# Altium integrated library Linear Technology Power Management LDO Linear Regulators.IntLib: 2339 symbols (part 11 of 131)
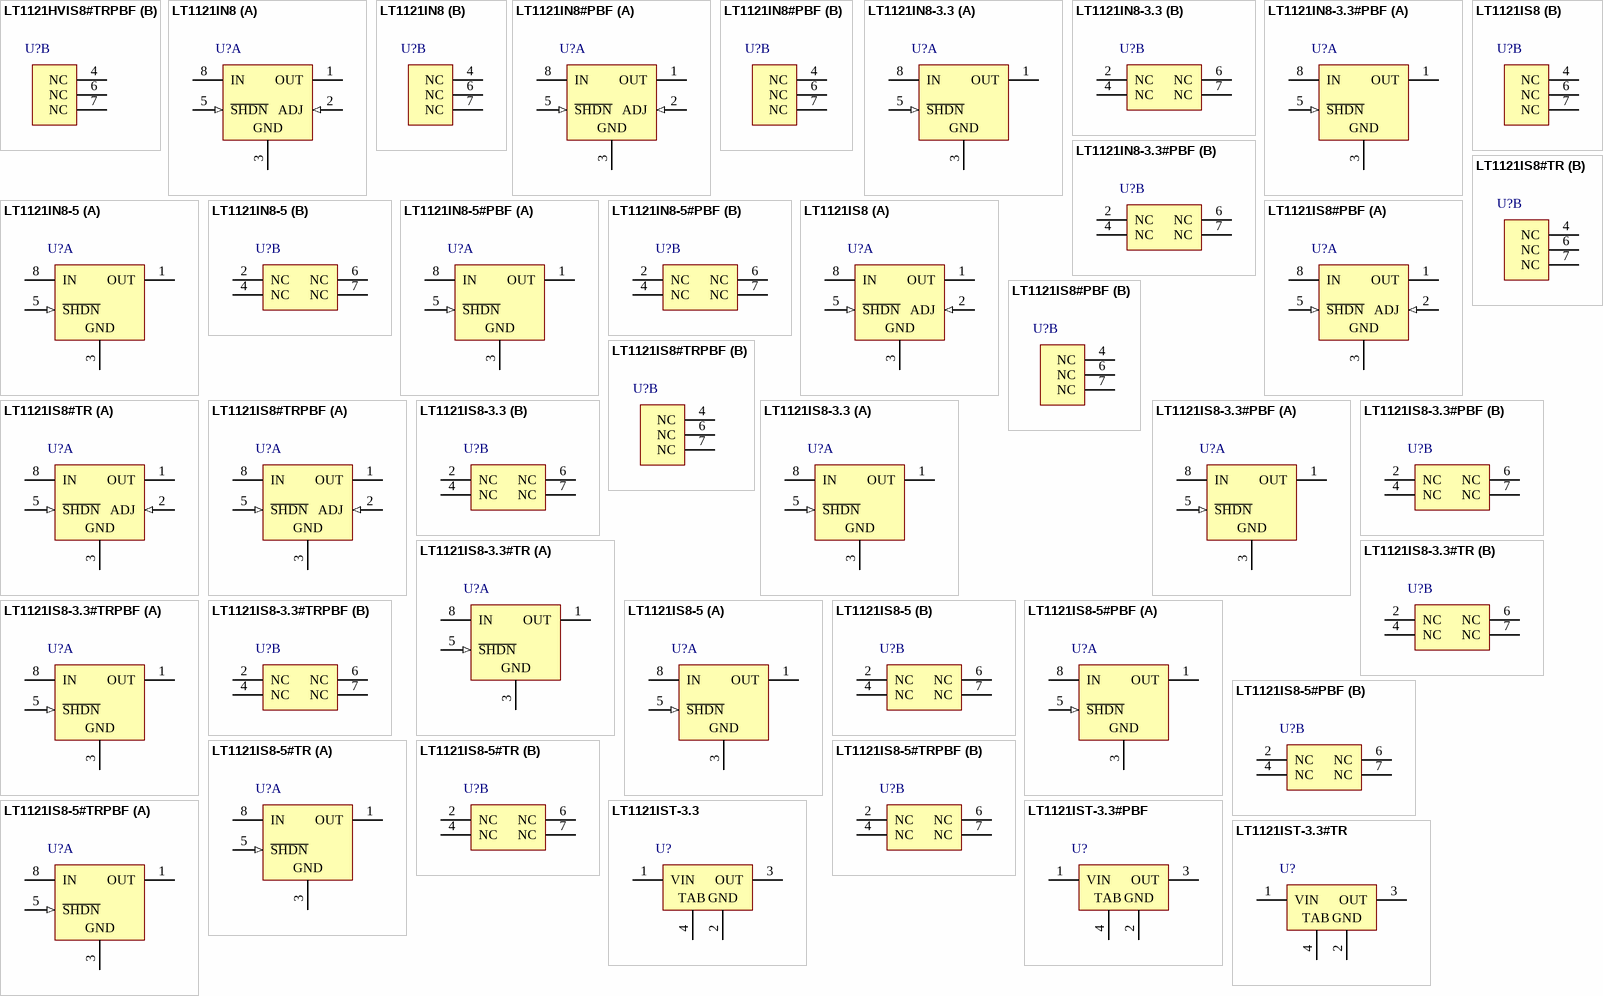
[diagram p79: symbols LT1121HVIS8#TRPBF to LT1121IST-3.3#TR]

## LT1121IS8-3.3
designator U?
Micropower Low Dropout Regulator with Shutdown, 4.17 to 36 V Vin, 3.3 V Vout, 8-pin SOIC (S8-8), -40 to 125 degC; Manufacturer: Linear Technology; PartNumber: LT1121IS8-3.3; Discrete Pass Element: no; Dropout Voltage(V): 0.42; Iout(mA): 150; Isupply(mA): 0.03; Number of Outputs: 1; Output Voltage: 3.3 V; Shutdown Current(uA): 16; Vin Max(V): 36; Vin Min(V): 4.17; DatasheetVersion: Rev. G; PackageVersion: Rev. G, 03/2012; PackageReference: S8-8; PackageDescription: 8-Pin Plastic Small Outline (Narrow .150 Inch), Body 4.9 x 3.9 mm, Pitch 1.27 mm; Supplier 1: Digi-Key; Supplier Part Number 1: LT1121IS8-3.3-ND; Supplier 2: Newark; Supplier Part Number 2: 57M1962; RoHS: FALSE; Mounting Technology: Surface Mount; ComponentLink1Description: Manufacturer URL; ComponentLink1URL: http://www.linear.com/; ComponentLink2Description: Datasheet; ComponentLink2URL: http://cds.linear.com/docs/en/datasheet/1121fg.pdf; ComponentLink3Description: Package Specification; ComponentLink3URL: http://cds.linear.com/docs/en/packaging/05081610_G_SO8.pdf
footprint LT-S8-8_N (SOIC, 8-Leads, Body 4.9x3.9mm, Pitch 1.27mm, IPC Medium Density)
footprint LT-S8-8_L (SOIC, 8-Leads, Body 4.9x3.9mm, Pitch 1.27mm, IPC High Density)
footprint LT-S8-8_M (SOIC, 8-Leads, Body 4.9x3.9mm, Pitch 1.27mm, IPC Low Density)
part A pins: 1 OUT (power) "The output pin supplies powerto the load. An output capacitor is required to prevent oscillations. See the Applications Information section for recommended value of output capacitance and information on reverse output (See Datasheet)", 3 GND (power), 5 ~{SHDN} (in) "This pin is used to put the device into shutdown. In shutdown the output ofthe device is turned off. This pin is active low. The device will be shut down if the shutdown pin is pulled low. The shutdown pin current with the (See Datasheet)", 8 IN (power) "Power is supplied to the device through the input pin. The input pin should be bypassed to ground if the device is more than six inches away from the main input filter capacitor. In general the output impedance of abattery (See Datasheet)"
part B pins: 2 NC, 4 NC, 6 NC, 7 NC

## LT1121IS8-3.3#PBF
designator U?
Micropower Low Dropout Regulator with Shutdown, 4.17 to 36 V Vin, 3.3 V Vout, 8-pin SOIC (S8-8), -40 to 125 degC, Pb-Free; Manufacturer: Linear Technology; PartNumber: LT1121IS8-3.3#PBF; Discrete Pass Element: no; Dropout Voltage(V): 0.42; Iout(mA): 150; Isupply(mA): 0.03; Number of Outputs: 1; Output Voltage: 3.3 V; Shutdown Current(uA): 16; Vin Max(V): 36; Vin Min(V): 4.17; DatasheetVersion: Rev. G; PackageVersion: Rev. G, 03/2012; PackageReference: S8-8; PackageDescription: 8-Pin Plastic Small Outline (Narrow .150 Inch), Body 4.9 x 3.9 mm, Pitch 1.27 mm; Supplier 1: Digi-Key; Supplier Part Number 1: LT1121IS8-3.3#PBF-ND; Supplier 2: Farnell; Supplier Part Number 2: 1663368; Supplier 3: Newark; Supplier Part Number 3: 57M1963; RoHS: TRUE; Mounting Technology: Surface Mount; ComponentLink1Description: Manufacturer URL; ComponentLink1URL: http://www.linear.com/; ComponentLink2Description: Datasheet; ComponentLink2URL: http://cds.linear.com/docs/en/datasheet/1121fg.pdf; ComponentLink3Description: Package Specification; ComponentLink3URL: http://cds.linear.com/docs/en/packaging/05081610_G_SO8.pdf
footprint LT-S8-8_N (SOIC, 8-Leads, Body 4.9x3.9mm, Pitch 1.27mm, IPC Medium Density)
footprint LT-S8-8_L (SOIC, 8-Leads, Body 4.9x3.9mm, Pitch 1.27mm, IPC High Density)
footprint LT-S8-8_M (SOIC, 8-Leads, Body 4.9x3.9mm, Pitch 1.27mm, IPC Low Density)
part A pins: 1 OUT (power) "The output pin supplies powerto the load. An output capacitor is required to prevent oscillations. See the Applications Information section for recommended value of output capacitance and information on reverse output (See Datasheet)", 3 GND (power), 5 ~{SHDN} (in) "This pin is used to put the device into shutdown. In shutdown the output ofthe device is turned off. This pin is active low. The device will be shut down if the shutdown pin is pulled low. The shutdown pin current with the (See Datasheet)", 8 IN (power) "Power is supplied to the device through the input pin. The input pin should be bypassed to ground if the device is more than six inches away from the main input filter capacitor. In general the output impedance of abattery (See Datasheet)"
part B pins: 2 NC, 4 NC, 6 NC, 7 NC

## LT1121IS8-3.3#TR
designator U?
Micropower Low Dropout Regulator with Shutdown, 4.17 to 36 V Vin, 3.3 V Vout, 8-pin SOIC (S8-8), -40 to 125 degC, Tape and Reel; Manufacturer: Linear Technology; PartNumber: LT1121IS8-3.3#TR; Discrete Pass Element: no; Dropout Voltage(V): 0.42; Iout(mA): 150; Isupply(mA): 0.03; Number of Outputs: 1; Output Voltage: 3.3 V; Shutdown Current(uA): 16; Vin Max(V): 36; Vin Min(V): 4.17; DatasheetVersion: Rev. G; PackageVersion: Rev. G, 03/2012; PackageReference: S8-8; PackageDescription: 8-Pin Plastic Small Outline (Narrow .150 Inch), Body 4.9 x 3.9 mm, Pitch 1.27 mm; Supplier 1: Digi-Key; Supplier Part Number 1: LT1121IS8-3.3#TR-ND; Packing: Tape and Reel; RoHS: FALSE; Mounting Technology: Surface Mount; ComponentLink1Description: Manufacturer URL; ComponentLink1URL: http://www.linear.com/; ComponentLink2Description: Datasheet; ComponentLink2URL: http://cds.linear.com/docs/en/datasheet/1121fg.pdf; ComponentLink3Description: Package Specification; ComponentLink3URL: http://cds.linear.com/docs/en/packaging/05081610_G_SO8.pdf
footprint LT-S8-8_N (SOIC, 8-Leads, Body 4.9x3.9mm, Pitch 1.27mm, IPC Medium Density)
footprint LT-S8-8_L (SOIC, 8-Leads, Body 4.9x3.9mm, Pitch 1.27mm, IPC High Density)
footprint LT-S8-8_M (SOIC, 8-Leads, Body 4.9x3.9mm, Pitch 1.27mm, IPC Low Density)
part A pins: 1 OUT (power) "The output pin supplies powerto the load. An output capacitor is required to prevent oscillations. See the Applications Information section for recommended value of output capacitance and information on reverse output (See Datasheet)", 3 GND (power), 5 ~{SHDN} (in) "This pin is used to put the device into shutdown. In shutdown the output ofthe device is turned off. This pin is active low. The device will be shut down if the shutdown pin is pulled low. The shutdown pin current with the (See Datasheet)", 8 IN (power) "Power is supplied to the device through the input pin. The input pin should be bypassed to ground if the device is more than six inches away from the main input filter capacitor. In general the output impedance of abattery (See Datasheet)"
part B pins: 2 NC, 4 NC, 6 NC, 7 NC

## LT1121IS8-3.3#TRPBF
designator U?
Micropower Low Dropout Regulator with Shutdown, 4.17 to 36 V Vin, 3.3 V Vout, 8-pin SOIC (S8-8), -40 to 125 degC, Pb-Free, Tape and Reel; Manufacturer: Linear Technology; PartNumber: LT1121IS8-3.3#TRPBF; Discrete Pass Element: no; Dropout Voltage(V): 0.42; Iout(mA): 150; Isupply(mA): 0.03; Number of Outputs: 1; Output Voltage: 3.3 V; Shutdown Current(uA): 16; Vin Max(V): 36; Vin Min(V): 4.17; DatasheetVersion: Rev. G; PackageVersion: Rev. G, 03/2012; PackageReference: S8-8; PackageDescription: 8-Pin Plastic Small Outline (Narrow .150 Inch), Body 4.9 x 3.9 mm, Pitch 1.27 mm; Supplier 1: Digi-Key; Supplier Part Number 1: LT1121IS8-3.3#TRPBF-ND; Supplier 2: Newark; Supplier Part Number 2: 57M1965; Packing: Tape and Reel; RoHS: TRUE; Mounting Technology: Surface Mount; ComponentLink1Description: Manufacturer URL; ComponentLink1URL: http://www.linear.com/; ComponentLink2Description: Datasheet; ComponentLink2URL: http://cds.linear.com/docs/en/datasheet/1121fg.pdf; ComponentLink3Description: Package Specification; ComponentLink3URL: http://cds.linear.com/docs/en/packaging/05081610_G_SO8.pdf
footprint LT-S8-8_N (SOIC, 8-Leads, Body 4.9x3.9mm, Pitch 1.27mm, IPC Medium Density)
footprint LT-S8-8_L (SOIC, 8-Leads, Body 4.9x3.9mm, Pitch 1.27mm, IPC High Density)
footprint LT-S8-8_M (SOIC, 8-Leads, Body 4.9x3.9mm, Pitch 1.27mm, IPC Low Density)
part A pins: 1 OUT (power) "The output pin supplies powerto the load. An output capacitor is required to prevent oscillations. See the Applications Information section for recommended value of output capacitance and information on reverse output (See Datasheet)", 3 GND (power), 5 ~{SHDN} (in) "This pin is used to put the device into shutdown. In shutdown the output ofthe device is turned off. This pin is active low. The device will be shut down if the shutdown pin is pulled low. The shutdown pin current with the (See Datasheet)", 8 IN (power) "Power is supplied to the device through the input pin. The input pin should be bypassed to ground if the device is more than six inches away from the main input filter capacitor. In general the output impedance of abattery (See Datasheet)"
part B pins: 2 NC, 4 NC, 6 NC, 7 NC

## LT1121IS8-5
designator U?
Micropower Low Dropout Regulator with Shutdown, 4.17 to 36 V Vin, 5 V Vout, 8-pin SOIC (S8-8), -40 to 125 degC; Manufacturer: Linear Technology; PartNumber: LT1121IS8-5; Discrete Pass Element: no; Dropout Voltage(V): 0.42; Iout(mA): 150; Isupply(mA): 0.03; Number of Outputs: 1; Output Voltage: 5 V; Shutdown Current(uA): 16; Vin Max(V): 36; Vin Min(V): 4.17; DatasheetVersion: Rev. G; PackageVersion: Rev. G, 03/2012; PackageReference: S8-8; PackageDescription: 8-Pin Plastic Small Outline (Narrow .150 Inch), Body 4.9 x 3.9 mm, Pitch 1.27 mm; Supplier 1: Digi-Key; Supplier Part Number 1: LT1121IS8-5-ND; Supplier 2: Newark; Supplier Part Number 2: 57M1966; RoHS: FALSE; Mounting Technology: Surface Mount; ComponentLink1Description: Manufacturer URL; ComponentLink1URL: http://www.linear.com/; ComponentLink2Description: Datasheet; ComponentLink2URL: http://cds.linear.com/docs/en/datasheet/1121fg.pdf; ComponentLink3Description: Package Specification; ComponentLink3URL: http://cds.linear.com/docs/en/packaging/05081610_G_SO8.pdf
footprint LT-S8-8_N (SOIC, 8-Leads, Body 4.9x3.9mm, Pitch 1.27mm, IPC Medium Density)
footprint LT-S8-8_L (SOIC, 8-Leads, Body 4.9x3.9mm, Pitch 1.27mm, IPC High Density)
footprint LT-S8-8_M (SOIC, 8-Leads, Body 4.9x3.9mm, Pitch 1.27mm, IPC Low Density)
part A pins: 1 OUT (power) "The output pin supplies powerto the load. An output capacitor is required to prevent oscillations. See the Applications Information section for recommended value of output capacitance and information on reverse output (See Datasheet)", 3 GND (power), 5 ~{SHDN} (in) "This pin is used to put the device into shutdown. In shutdown the output ofthe device is turned off. This pin is active low. The device will be shut down if the shutdown pin is pulled low. The shutdown pin current with the (See Datasheet)", 8 IN (power) "Power is supplied to the device through the input pin. The input pin should be bypassed to ground if the device is more than six inches away from the main input filter capacitor. In general the output impedance of abattery (See Datasheet)"
part B pins: 2 NC, 4 NC, 6 NC, 7 NC

## LT1121IS8-5#PBF
designator U?
Micropower Low Dropout Regulator with Shutdown, 4.17 to 36 V Vin, 5 V Vout, 8-pin SOIC (S8-8), -40 to 125 degC, Pb-Free; Manufacturer: Linear Technology; PartNumber: LT1121IS8-5#PBF; Discrete Pass Element: no; Dropout Voltage(V): 0.42; Iout(mA): 150; Isupply(mA): 0.03; Number of Outputs: 1; Output Voltage: 5 V; Shutdown Current(uA): 16; Vin Max(V): 36; Vin Min(V): 4.17; DatasheetVersion: Rev. G; PackageVersion: Rev. G, 03/2012; PackageReference: S8-8; PackageDescription: 8-Pin Plastic Small Outline (Narrow .150 Inch), Body 4.9 x 3.9 mm, Pitch 1.27 mm; Supplier 1: Digi-Key; Supplier Part Number 1: LT1121IS8-5#PBF-ND; Supplier 2: Farnell; Supplier Part Number 2: 2295200; Supplier 3: Newark; Supplier Part Number 3: 57M1967; RoHS: TRUE; Mounting Technology: Surface Mount; ComponentLink1Description: Manufacturer URL; ComponentLink1URL: http://www.linear.com/; ComponentLink2Description: Datasheet; ComponentLink2URL: http://cds.linear.com/docs/en/datasheet/1121fg.pdf; ComponentLink3Description: Package Specification; ComponentLink3URL: http://cds.linear.com/docs/en/packaging/05081610_G_SO8.pdf
footprint LT-S8-8_N (SOIC, 8-Leads, Body 4.9x3.9mm, Pitch 1.27mm, IPC Medium Density)
footprint LT-S8-8_L (SOIC, 8-Leads, Body 4.9x3.9mm, Pitch 1.27mm, IPC High Density)
footprint LT-S8-8_M (SOIC, 8-Leads, Body 4.9x3.9mm, Pitch 1.27mm, IPC Low Density)
part A pins: 1 OUT (power) "The output pin supplies powerto the load. An output capacitor is required to prevent oscillations. See the Applications Information section for recommended value of output capacitance and information on reverse output (See Datasheet)", 3 GND (power), 5 ~{SHDN} (in) "This pin is used to put the device into shutdown. In shutdown the output ofthe device is turned off. This pin is active low. The device will be shut down if the shutdown pin is pulled low. The shutdown pin current with the (See Datasheet)", 8 IN (power) "Power is supplied to the device through the input pin. The input pin should be bypassed to ground if the device is more than six inches away from the main input filter capacitor. In general the output impedance of abattery (See Datasheet)"
part B pins: 2 NC, 4 NC, 6 NC, 7 NC

## LT1121IS8-5#TR
designator U?
Micropower Low Dropout Regulator with Shutdown, 4.17 to 36 V Vin, 5 V Vout, 8-pin SOIC (S8-8), -40 to 125 degC, Tape and Reel; Manufacturer: Linear Technology; PartNumber: LT1121IS8-5#TR; Discrete Pass Element: no; Dropout Voltage(V): 0.42; Iout(mA): 150; Isupply(mA): 0.03; Number of Outputs: 1; Output Voltage: 5 V; Shutdown Current(uA): 16; Vin Max(V): 36; Vin Min(V): 4.17; DatasheetVersion: Rev. G; PackageVersion: Rev. G, 03/2012; PackageReference: S8-8; PackageDescription: 8-Pin Plastic Small Outline (Narrow .150 Inch), Body 4.9 x 3.9 mm, Pitch 1.27 mm; Supplier 1: Digi-Key; Supplier Part Number 1: LT1121IS8-5#TR-ND; Packing: Tape and Reel; RoHS: FALSE; Mounting Technology: Surface Mount; ComponentLink1Description: Manufacturer URL; ComponentLink1URL: http://www.linear.com/; ComponentLink2Description: Datasheet; ComponentLink2URL: http://cds.linear.com/docs/en/datasheet/1121fg.pdf; ComponentLink3Description: Package Specification; ComponentLink3URL: http://cds.linear.com/docs/en/packaging/05081610_G_SO8.pdf
footprint LT-S8-8_N (SOIC, 8-Leads, Body 4.9x3.9mm, Pitch 1.27mm, IPC Medium Density)
footprint LT-S8-8_L (SOIC, 8-Leads, Body 4.9x3.9mm, Pitch 1.27mm, IPC High Density)
footprint LT-S8-8_M (SOIC, 8-Leads, Body 4.9x3.9mm, Pitch 1.27mm, IPC Low Density)
part A pins: 1 OUT (power) "The output pin supplies powerto the load. An output capacitor is required to prevent oscillations. See the Applications Information section for recommended value of output capacitance and information on reverse output (See Datasheet)", 3 GND (power), 5 ~{SHDN} (in) "This pin is used to put the device into shutdown. In shutdown the output ofthe device is turned off. This pin is active low. The device will be shut down if the shutdown pin is pulled low. The shutdown pin current with the (See Datasheet)", 8 IN (power) "Power is supplied to the device through the input pin. The input pin should be bypassed to ground if the device is more than six inches away from the main input filter capacitor. In general the output impedance of abattery (See Datasheet)"
part B pins: 2 NC, 4 NC, 6 NC, 7 NC

## LT1121IS8-5#TRPBF
designator U?
Micropower Low Dropout Regulator with Shutdown, 4.17 to 36 V Vin, 5 V Vout, 8-pin SOIC (S8-8), -40 to 125 degC, Pb-Free, Tape and Reel; Manufacturer: Linear Technology; PartNumber: LT1121IS8-5#TRPBF; Discrete Pass Element: no; Dropout Voltage(V): 0.42; Iout(mA): 150; Isupply(mA): 0.03; Number of Outputs: 1; Output Voltage: 5 V; Shutdown Current(uA): 16; Vin Max(V): 36; Vin Min(V): 4.17; DatasheetVersion: Rev. G; PackageVersion: Rev. G, 03/2012; PackageReference: S8-8; PackageDescription: 8-Pin Plastic Small Outline (Narrow .150 Inch), Body 4.9 x 3.9 mm, Pitch 1.27 mm; Supplier 1: Digi-Key; Supplier Part Number 1: LT1121IS8-5#TRPBF-ND; Supplier 2: Newark; Supplier Part Number 2: 57M1969; Packing: Tape and Reel; RoHS: TRUE; Mounting Technology: Surface Mount; ComponentLink1Description: Manufacturer URL; ComponentLink1URL: http://www.linear.com/; ComponentLink2Description: Datasheet; ComponentLink2URL: http://cds.linear.com/docs/en/datasheet/1121fg.pdf; ComponentLink3Description: Package Specification; ComponentLink3URL: http://cds.linear.com/docs/en/packaging/05081610_G_SO8.pdf
footprint LT-S8-8_N (SOIC, 8-Leads, Body 4.9x3.9mm, Pitch 1.27mm, IPC Medium Density)
footprint LT-S8-8_L (SOIC, 8-Leads, Body 4.9x3.9mm, Pitch 1.27mm, IPC High Density)
footprint LT-S8-8_M (SOIC, 8-Leads, Body 4.9x3.9mm, Pitch 1.27mm, IPC Low Density)
part A pins: 1 OUT (power) "The output pin supplies powerto the load. An output capacitor is required to prevent oscillations. See the Applications Information section for recommended value of output capacitance and information on reverse output (See Datasheet)", 3 GND (power), 5 ~{SHDN} (in) "This pin is used to put the device into shutdown. In shutdown the output ofthe device is turned off. This pin is active low. The device will be shut down if the shutdown pin is pulled low. The shutdown pin current with the (See Datasheet)", 8 IN (power) "Power is supplied to the device through the input pin. The input pin should be bypassed to ground if the device is more than six inches away from the main input filter capacitor. In general the output impedance of abattery (See Datasheet)"
part B pins: 2 NC, 4 NC, 6 NC, 7 NC

## LT1121IST-3.3
designator U?
Micropower Low Dropout Regulator with Shutdown, 4.17 to 36 V Vin, 3.3 V Vout, 3-pin SOT223 (ST-3), -40 to 125 degC; Manufacturer: Linear Technology; PartNumber: LT1121IST-3.3; Discrete Pass Element: no; Dropout Voltage(V): 0.42; Iout(mA): 150; Isupply(mA): 0.03; Number of Outputs: 1; Output Voltage: 3.3 V; Shutdown Current(uA): 16; Vin Max(V): 36; Vin Min(V): 4.17; DatasheetVersion: Rev. G; PackageVersion: Jun-10; PackageReference: ST-3; PackageDescription: 3-Pin Plastic SOT-223, 3.505 x 6.505 mm Body, Pitch 2.3 mm; Supplier 1: Digi-Key; Supplier Part Number 1: LT1121IST-3.3-ND; Supplier 2: Newark; Supplier Part Number 2: 57M1953; RoHS: FALSE; Mounting Technology: Surface Mount; ComponentLink1Description: Manufacturer URL; ComponentLink1URL: http://www.linear.com/; ComponentLink2Description: Datasheet; ComponentLink2URL: http://cds.linear.com/docs/en/datasheet/1121fg.pdf; ComponentLink3Description: Package Specification; ComponentLink3URL: http://cds.linear.com/docs/en/packaging/SOT_3_05-08-1630.pdf
footprint LT-ST-3-SOT-223_N (SOT223, 4-Leads, Body 6.505x3.505mm, Pitch 2.3mm, IPC Medium Density)
footprint LT-ST-3-SOT-223_L (SOT223, 4-Leads, Body 6.505x3.505mm, Pitch 2.3mm, IPC High Density)
footprint LT-ST-3-SOT-223_M (SOT223, 4-Leads, Body 6.505x3.505mm, Pitch 2.3mm, IPC Low Density)
pins: 1 VIN (power) "Power is supplied to the device through the input pin. The input pin should be bypassed to ground if the device is more than 6 inches away from the main input filter capacitor. In general, the output impedance of a battery (See Datasheet)", 2 GND (power), 3 OUT (power) "The output pin supplies power to the load. An output capacitor is required to prevent oscillations. See the Applications Information section for recommended value of output capacitance and information on reverse output (See Datasheet)", 4 TAB (power)

## LT1121IST-3.3#PBF
designator U?
Micropower Low Dropout Regulator with Shutdown, 4.17 to 36 V Vin, 3.3 V Vout, 3-pin SOT223 (ST-3), -40 to 125 degC, Pb-Free; Manufacturer: Linear Technology; PartNumber: LT1121IST-3.3#PBF; Discrete Pass Element: no; Dropout Voltage(V): 0.42; Iout(mA): 150; Isupply(mA): 0.03; Number of Outputs: 1; Output Voltage: 3.3 V; Shutdown Current(uA): 16; Vin Max(V): 36; Vin Min(V): 4.17; DatasheetVersion: Rev. G; PackageVersion: Jun-10; PackageReference: ST-3; PackageDescription: 3-Pin Plastic SOT-223, 3.505 x 6.505 mm Body, Pitch 2.3 mm; Supplier 1: Digi-Key; Supplier Part Number 1: LT1121IST-3.3#PBF-ND; Supplier 2: Farnell; Supplier Part Number 2: 1663369; Supplier 3: Newark; Supplier Part Number 3: 57M1954; RoHS: TRUE; Mounting Technology: Surface Mount; ComponentLink1Description: Manufacturer URL; ComponentLink1URL: http://www.linear.com/; ComponentLink2Description: Datasheet; ComponentLink2URL: http://cds.linear.com/docs/en/datasheet/1121fg.pdf; ComponentLink3Description: Package Specification; ComponentLink3URL: http://cds.linear.com/docs/en/packaging/SOT_3_05-08-1630.pdf
footprint LT-ST-3-SOT-223_N (SOT223, 4-Leads, Body 6.505x3.505mm, Pitch 2.3mm, IPC Medium Density)
footprint LT-ST-3-SOT-223_L (SOT223, 4-Leads, Body 6.505x3.505mm, Pitch 2.3mm, IPC High Density)
footprint LT-ST-3-SOT-223_M (SOT223, 4-Leads, Body 6.505x3.505mm, Pitch 2.3mm, IPC Low Density)
pins: 1 VIN (power) "Power is supplied to the device through the input pin. The input pin should be bypassed to ground if the device is more than 6 inches away from the main input filter capacitor. In general, the output impedance of a battery (See Datasheet)", 2 GND (power), 3 OUT (power) "The output pin supplies power to the load. An output capacitor is required to prevent oscillations. See the Applications Information section for recommended value of output capacitance and information on reverse output (See Datasheet)", 4 TAB (power)

## LT1121IST-3.3#TR
designator U?
Micropower Low Dropout Regulator with Shutdown, 4.17 to 36 V Vin, 3.3 V Vout, 3-pin SOT223 (ST-3), -40 to 125 degC, Tape and Reel; Manufacturer: Linear Technology; PartNumber: LT1121IST-3.3#TR; Discrete Pass Element: no; Dropout Voltage(V): 0.42; Iout(mA): 150; Isupply(mA): 0.03; Number of Outputs: 1; Output Voltage: 3.3 V; Shutdown Current(uA): 16; Vin Max(V): 36; Vin Min(V): 4.17; DatasheetVersion: Rev. G; PackageVersion: Jun-10; PackageReference: ST-3; PackageDescription: 3-Pin Plastic SOT-223, 3.505 x 6.505 mm Body, Pitch 2.3 mm; Supplier 1: Digi-Key; Supplier Part Number 1: LT1121IST-3.3#TR-ND; Packing: Tape and Reel; RoHS: FALSE; Mounting Technology: Surface Mount; ComponentLink1Description: Manufacturer URL; ComponentLink1URL: http://www.linear.com/; ComponentLink2Description: Datasheet; ComponentLink2URL: http://cds.linear.com/docs/en/datasheet/1121fg.pdf; ComponentLink3Description: Package Specification; ComponentLink3URL: http://cds.linear.com/docs/en/packaging/SOT_3_05-08-1630.pdf
footprint LT-ST-3-SOT-223_N (SOT223, 4-Leads, Body 6.505x3.505mm, Pitch 2.3mm, IPC Medium Density)
footprint LT-ST-3-SOT-223_L (SOT223, 4-Leads, Body 6.505x3.505mm, Pitch 2.3mm, IPC High Density)
footprint LT-ST-3-SOT-223_M (SOT223, 4-Leads, Body 6.505x3.505mm, Pitch 2.3mm, IPC Low Density)
pins: 1 VIN (power) "Power is supplied to the device through the input pin. The input pin should be bypassed to ground if the device is more than 6 inches away from the main input filter capacitor. In general, the output impedance of a battery (See Datasheet)", 2 GND (power), 3 OUT (power) "The output pin supplies power to the load. An output capacitor is required to prevent oscillations. See the Applications Information section for recommended value of output capacitance and information on reverse output (See Datasheet)", 4 TAB (power)

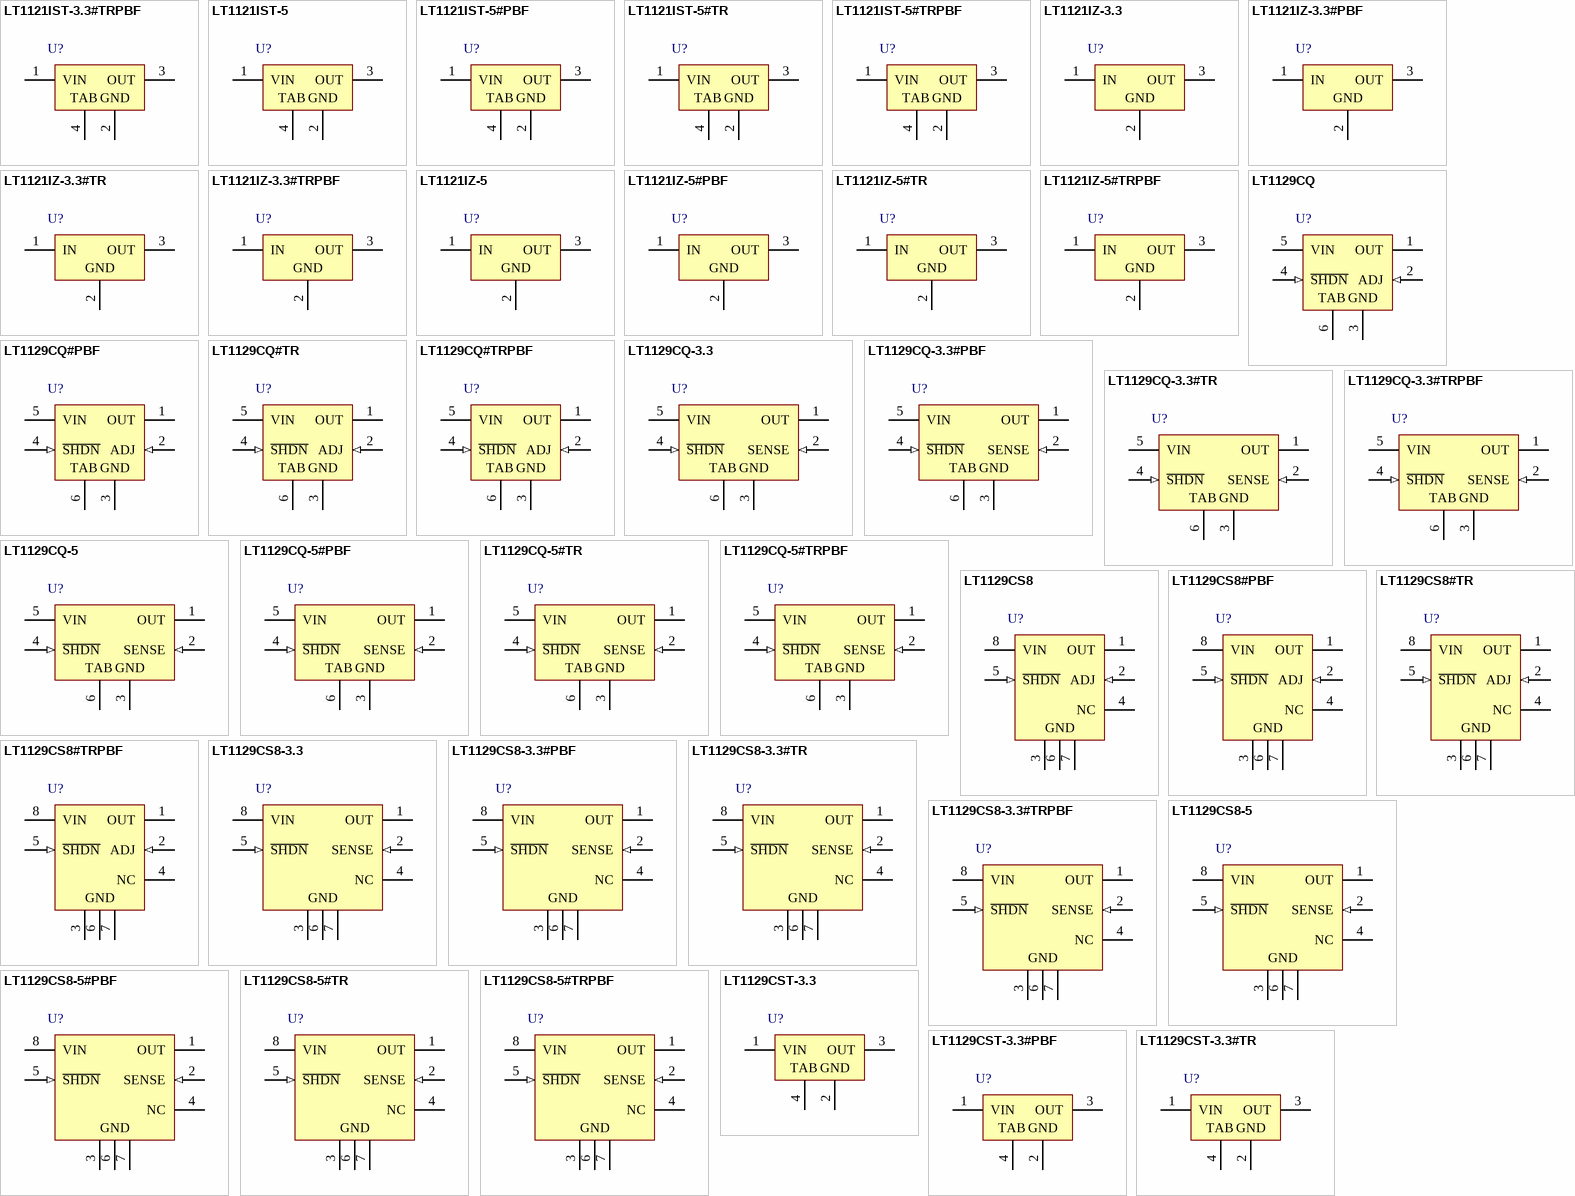
[diagram p9: symbols LT1121IST-3.3#TRPBF to LT1129CST-3.3#TR]

## LT1121IST-3.3#TRPBF
designator U?
Micropower Low Dropout Regulator with Shutdown, 4.17 to 36 V Vin, 3.3 V Vout, 3-pin SOT223 (ST-3), -40 to 125 degC, Pb-Free, Tape and Reel; Manufacturer: Linear Technology; PartNumber: LT1121IST-3.3#TRPBF; Discrete Pass Element: no; Dropout Voltage(V): 0.42; Iout(mA): 150; Isupply(mA): 0.03; Number of Outputs: 1; Output Voltage: 3.3 V; Shutdown Current(uA): 16; Vin Max(V): 36; Vin Min(V): 4.17; DatasheetVersion: Rev. G; PackageVersion: Jun-10; PackageReference: ST-3; PackageDescription: 3-Pin Plastic SOT-223, 3.505 x 6.505 mm Body, Pitch 2.3 mm; Supplier 1: Digi-Key; Supplier Part Number 1: LT1121IST-3.3#TRPBF-ND; Packing: Tape and Reel; RoHS: TRUE; Mounting Technology: Surface Mount; ComponentLink1Description: Manufacturer URL; ComponentLink1URL: http://www.linear.com/; ComponentLink2Description: Datasheet; ComponentLink2URL: http://cds.linear.com/docs/en/datasheet/1121fg.pdf; ComponentLink3Description: Package Specification; ComponentLink3URL: http://cds.linear.com/docs/en/packaging/SOT_3_05-08-1630.pdf
footprint LT-ST-3-SOT-223_N (SOT223, 4-Leads, Body 6.505x3.505mm, Pitch 2.3mm, IPC Medium Density)
footprint LT-ST-3-SOT-223_L (SOT223, 4-Leads, Body 6.505x3.505mm, Pitch 2.3mm, IPC High Density)
footprint LT-ST-3-SOT-223_M (SOT223, 4-Leads, Body 6.505x3.505mm, Pitch 2.3mm, IPC Low Density)
pins: 1 VIN (power) "Power is supplied to the device through the input pin. The input pin should be bypassed to ground if the device is more than 6 inches away from the main input filter capacitor. In general, the output impedance of a battery (See Datasheet)", 2 GND (power), 3 OUT (power) "The output pin supplies power to the load. An output capacitor is required to prevent oscillations. See the Applications Information section for recommended value of output capacitance and information on reverse output (See Datasheet)", 4 TAB (power)

## LT1121IST-5
designator U?
Micropower Low Dropout Regulator with Shutdown, 4.17 to 36 V Vin, 5 V Vout, 3-pin SOT223 (ST-3), -40 to 125 degC; Manufacturer: Linear Technology; PartNumber: LT1121IST-5; Discrete Pass Element: no; Dropout Voltage(V): 0.42; Iout(mA): 150; Isupply(mA): 0.03; Number of Outputs: 1; Output Voltage: 5 V; Shutdown Current(uA): 16; Vin Max(V): 36; Vin Min(V): 4.17; DatasheetVersion: Rev. G; PackageVersion: Jun-10; PackageReference: ST-3; PackageDescription: 3-Pin Plastic SOT-223, 3.505 x 6.505 mm Body, Pitch 2.3 mm; Supplier 1: Digi-Key; Supplier Part Number 1: LT1121IST-5-ND; Supplier 2: Newark; Supplier Part Number 2: 57M1957; RoHS: FALSE; Mounting Technology: Surface Mount; ComponentLink1Description: Manufacturer URL; ComponentLink1URL: http://www.linear.com/; ComponentLink2Description: Datasheet; ComponentLink2URL: http://cds.linear.com/docs/en/datasheet/1121fg.pdf; ComponentLink3Description: Package Specification; ComponentLink3URL: http://cds.linear.com/docs/en/packaging/SOT_3_05-08-1630.pdf
footprint LT-ST-3-SOT-223_N (SOT223, 4-Leads, Body 6.505x3.505mm, Pitch 2.3mm, IPC Medium Density)
footprint LT-ST-3-SOT-223_L (SOT223, 4-Leads, Body 6.505x3.505mm, Pitch 2.3mm, IPC High Density)
footprint LT-ST-3-SOT-223_M (SOT223, 4-Leads, Body 6.505x3.505mm, Pitch 2.3mm, IPC Low Density)
pins: 1 VIN (power) "Power is supplied to the device through the input pin. The input pin should be bypassed to ground if the device is more than 6 inches away from the main input filter capacitor. In general, the output impedance of a battery (See Datasheet)", 2 GND (power), 3 OUT (power) "The output pin supplies power to the load. An output capacitor is required to prevent oscillations. See the Applications Information section for recommended value of output capacitance and information on reverse output (See Datasheet)", 4 TAB (power)

## LT1121IST-5#PBF
designator U?
Micropower Low Dropout Regulator with Shutdown, 4.17 to 36 V Vin, 5 V Vout, 3-pin SOT223 (ST-3), -40 to 125 degC, Pb-Free; Manufacturer: Linear Technology; PartNumber: LT1121IST-5#PBF; Discrete Pass Element: no; Dropout Voltage(V): 0.42; Iout(mA): 150; Isupply(mA): 0.03; Number of Outputs: 1; Output Voltage: 5 V; Shutdown Current(uA): 16; Vin Max(V): 36; Vin Min(V): 4.17; DatasheetVersion: Rev. G; PackageVersion: Jun-10; PackageReference: ST-3; PackageDescription: 3-Pin Plastic SOT-223, 3.505 x 6.505 mm Body, Pitch 2.3 mm; Supplier 1: Digi-Key; Supplier Part Number 1: LT1121IST-5#PBF-ND; Supplier 2: Farnell; Supplier Part Number 2: 9560084; Supplier 3: Newark; Supplier Part Number 3: 57M1958; RoHS: TRUE; Mounting Technology: Surface Mount; ComponentLink1Description: Manufacturer URL; ComponentLink1URL: http://www.linear.com/; ComponentLink2Description: Datasheet; ComponentLink2URL: http://cds.linear.com/docs/en/datasheet/1121fg.pdf; ComponentLink3Description: Package Specification; ComponentLink3URL: http://cds.linear.com/docs/en/packaging/SOT_3_05-08-1630.pdf
footprint LT-ST-3-SOT-223_N (SOT223, 4-Leads, Body 6.505x3.505mm, Pitch 2.3mm, IPC Medium Density)
footprint LT-ST-3-SOT-223_L (SOT223, 4-Leads, Body 6.505x3.505mm, Pitch 2.3mm, IPC High Density)
footprint LT-ST-3-SOT-223_M (SOT223, 4-Leads, Body 6.505x3.505mm, Pitch 2.3mm, IPC Low Density)
pins: 1 VIN (power) "Power is supplied to the device through the input pin. The input pin should be bypassed to ground if the device is more than 6 inches away from the main input filter capacitor. In general, the output impedance of a battery (See Datasheet)", 2 GND (power), 3 OUT (power) "The output pin supplies power to the load. An output capacitor is required to prevent oscillations. See the Applications Information section for recommended value of output capacitance and information on reverse output (See Datasheet)", 4 TAB (power)

## LT1121IST-5#TR
designator U?
Micropower Low Dropout Regulator with Shutdown, 4.17 to 36 V Vin, 5 V Vout, 3-pin SOT223 (ST-3), -40 to 125 degC, Tape and Reel; Manufacturer: Linear Technology; PartNumber: LT1121IST-5#TR; Discrete Pass Element: no; Dropout Voltage(V): 0.42; Iout(mA): 150; Isupply(mA): 0.03; Number of Outputs: 1; Output Voltage: 5 V; Shutdown Current(uA): 16; Vin Max(V): 36; Vin Min(V): 4.17; DatasheetVersion: Rev. G; PackageVersion: Jun-10; PackageReference: ST-3; PackageDescription: 3-Pin Plastic SOT-223, 3.505 x 6.505 mm Body, Pitch 2.3 mm; Supplier 1: Digi-Key; Supplier Part Number 1: LT1121IST-5#TR-ND; Supplier 2: Newark; Supplier Part Number 2: 57M1959; Packing: Tape and Reel; RoHS: FALSE; Mounting Technology: Surface Mount; ComponentLink1Description: Manufacturer URL; ComponentLink1URL: http://www.linear.com/; ComponentLink2Description: Datasheet; ComponentLink2URL: http://cds.linear.com/docs/en/datasheet/1121fg.pdf; ComponentLink3Description: Package Specification; ComponentLink3URL: http://cds.linear.com/docs/en/packaging/SOT_3_05-08-1630.pdf
footprint LT-ST-3-SOT-223_N (SOT223, 4-Leads, Body 6.505x3.505mm, Pitch 2.3mm, IPC Medium Density)
footprint LT-ST-3-SOT-223_L (SOT223, 4-Leads, Body 6.505x3.505mm, Pitch 2.3mm, IPC High Density)
footprint LT-ST-3-SOT-223_M (SOT223, 4-Leads, Body 6.505x3.505mm, Pitch 2.3mm, IPC Low Density)
pins: 1 VIN (power) "Power is supplied to the device through the input pin. The input pin should be bypassed to ground if the device is more than 6 inches away from the main input filter capacitor. In general, the output impedance of a battery (See Datasheet)", 2 GND (power), 3 OUT (power) "The output pin supplies power to the load. An output capacitor is required to prevent oscillations. See the Applications Information section for recommended value of output capacitance and information on reverse output (See Datasheet)", 4 TAB (power)

## LT1121IST-5#TRPBF
designator U?
Micropower Low Dropout Regulator with Shutdown, 4.17 to 36 V Vin, 5 V Vout, 3-pin SOT223 (ST-3), -40 to 125 degC, Pb-Free, Tape and Reel; Manufacturer: Linear Technology; PartNumber: LT1121IST-5#TRPBF; Discrete Pass Element: no; Dropout Voltage(V): 0.42; Iout(mA): 150; Isupply(mA): 0.03; Number of Outputs: 1; Output Voltage: 5 V; Shutdown Current(uA): 16; Vin Max(V): 36; Vin Min(V): 4.17; DatasheetVersion: Rev. G; PackageVersion: Jun-10; PackageReference: ST-3; PackageDescription: 3-Pin Plastic SOT-223, 3.505 x 6.505 mm Body, Pitch 2.3 mm; Supplier 1: Digi-Key; Supplier Part Number 1: LT1121IST-5#TRPBF-ND; Supplier 2: Newark; Supplier Part Number 2: 57M1960; Packing: Tape and Reel; RoHS: TRUE; Mounting Technology: Surface Mount; ComponentLink1Description: Manufacturer URL; ComponentLink1URL: http://www.linear.com/; ComponentLink2Description: Datasheet; ComponentLink2URL: http://cds.linear.com/docs/en/datasheet/1121fg.pdf; ComponentLink3Description: Package Specification; ComponentLink3URL: http://cds.linear.com/docs/en/packaging/SOT_3_05-08-1630.pdf
footprint LT-ST-3-SOT-223_N (SOT223, 4-Leads, Body 6.505x3.505mm, Pitch 2.3mm, IPC Medium Density)
footprint LT-ST-3-SOT-223_L (SOT223, 4-Leads, Body 6.505x3.505mm, Pitch 2.3mm, IPC High Density)
footprint LT-ST-3-SOT-223_M (SOT223, 4-Leads, Body 6.505x3.505mm, Pitch 2.3mm, IPC Low Density)
pins: 1 VIN (power) "Power is supplied to the device through the input pin. The input pin should be bypassed to ground if the device is more than 6 inches away from the main input filter capacitor. In general, the output impedance of a battery (See Datasheet)", 2 GND (power), 3 OUT (power) "The output pin supplies power to the load. An output capacitor is required to prevent oscillations. See the Applications Information section for recommended value of output capacitance and information on reverse output (See Datasheet)", 4 TAB (power)

## LT1121IZ-3.3
designator U?
Micropower Low Dropout Regulator with Shutdown, 4.17 to 36 V Vin, 3.3 V Vout, 3-pin TO226 (Z-3), -40 to 125 degC; Manufacturer: Linear Technology; PartNumber: LT1121IZ-3.3; Discrete Pass Element: no; Dropout Voltage(V): 0.42; Iout(mA): 150; Isupply(mA): 0.03; Number of Outputs: 1; Output Voltage: 3.3 V; Shutdown Current(uA): 16; Vin Max(V): 36; Vin Min(V): 4.17; DatasheetVersion: Rev. G; PackageVersion: Rev. C, 06/2010; PackageReference: Z-3; PackageDescription: 3-Pin Plastic TO-92, Body 4.572 x 3.556 mm, Pitch 1.27 mm; Supplier 1: Digi-Key; Supplier Part Number 1: LT1121IZ-3.3-ND; RoHS: FALSE; Mounting Technology: Through Hole; ComponentLink1Description: Manufacturer URL; ComponentLink1URL: http://www.linear.com/; ComponentLink2Description: Datasheet; ComponentLink2URL: http://cds.linear.com/docs/en/datasheet/1121fg.pdf; ComponentLink3Description: Package Specification; ComponentLink3URL: http://cds.linear.com/docs/en/packaging/TO-92_3_05-08-1410.pdf
footprint LT-Z-3-S-TO-226_V (TO-92, 3-Leads, Body 4.572x3.556mm, Pitch 1.27mm)
pins: 1 IN (power) "Power is supplied to the device through the input pin. The input pin should be bypassed to ground if the device is more than six inches away from the main input filter capacitor. In general the output impedance of a battery (See Datasheet)", 2 GND (power), 3 OUT (power) "The output pin supplies power to the load. An output capacitor is required to prevent oscillations. See the Applications Information section for recommended value of output capacitance and information on reverse output (See Datasheet)"

## LT1121IZ-3.3#PBF
designator U?
Micropower Low Dropout Regulator with Shutdown, 4.17 to 36 V Vin, 3.3 V Vout, 3-pin TO226 (Z-3), -40 to 125 degC, Pb-Free; Manufacturer: Linear Technology; PartNumber: LT1121IZ-3.3#PBF; Discrete Pass Element: no; Dropout Voltage(V): 0.42; Iout(mA): 150; Isupply(mA): 0.03; Number of Outputs: 1; Output Voltage: 3.3 V; Shutdown Current(uA): 16; Vin Max(V): 36; Vin Min(V): 4.17; DatasheetVersion: Rev. G; PackageVersion: Rev. C, 06/2010; PackageReference: Z-3; PackageDescription: 3-Pin Plastic TO-92, Body 4.572 x 3.556 mm, Pitch 1.27 mm; Supplier 1: Digi-Key; Supplier Part Number 1: LT1121IZ-3.3#PBF-ND; Supplier 2: Newark; Supplier Part Number 2: 57M1974; RoHS: TRUE; Mounting Technology: Through Hole; ComponentLink1Description: Manufacturer URL; ComponentLink1URL: http://www.linear.com/; ComponentLink2Description: Datasheet; ComponentLink2URL: http://cds.linear.com/docs/en/datasheet/1121fg.pdf; ComponentLink3Description: Package Specification; ComponentLink3URL: http://cds.linear.com/docs/en/packaging/TO-92_3_05-08-1410.pdf
footprint LT-Z-3-S-TO-226_V (TO-92, 3-Leads, Body 4.572x3.556mm, Pitch 1.27mm)
pins: 1 IN (power) "Power is supplied to the device through the input pin. The input pin should be bypassed to ground if the device is more than six inches away from the main input filter capacitor. In general the output impedance of a battery (See Datasheet)", 2 GND (power), 3 OUT (power) "The output pin supplies power to the load. An output capacitor is required to prevent oscillations. See the Applications Information section for recommended value of output capacitance and information on reverse output (See Datasheet)"

## LT1121IZ-3.3#TR
designator U?
Micropower Low Dropout Regulator with Shutdown, 4.17 to 36 V Vin, 3.3 V Vout, 3-pin TO226 (Z-3), -40 to 125 degC, Tape and Reel; Manufacturer: Linear Technology; PartNumber: LT1121IZ-3.3#TR; Discrete Pass Element: no; Dropout Voltage(V): 0.42; Iout(mA): 150; Isupply(mA): 0.03; Number of Outputs: 1; Output Voltage: 3.3 V; Shutdown Current(uA): 16; Vin Max(V): 36; Vin Min(V): 4.17; DatasheetVersion: Rev. G; PackageVersion: Rev. C, 06/2010; PackageReference: Z-3; PackageDescription: 3-Pin Plastic TO-92, Body 4.572 x 3.556 mm, Pitch 1.27 mm; Supplier 1: Digi-Key; Supplier Part Number 1: LT1121IZ-3.3#TR-ND; Packing: Tape and Reel; RoHS: FALSE; Mounting Technology: Through Hole; ComponentLink1Description: Manufacturer URL; ComponentLink1URL: http://www.linear.com/; ComponentLink2Description: Datasheet; ComponentLink2URL: http://cds.linear.com/docs/en/datasheet/1121fg.pdf; ComponentLink3Description: Package Specification; ComponentLink3URL: http://cds.linear.com/docs/en/packaging/TO-92_3_05-08-1410.pdf
footprint LT-Z-3-S-TO-226_V (TO-92, 3-Leads, Body 4.572x3.556mm, Pitch 1.27mm)
pins: 1 IN (power) "Power is supplied to the device through the input pin. The input pin should be bypassed to ground if the device is more than six inches away from the main input filter capacitor. In general the output impedance of a battery (See Datasheet)", 2 GND (power), 3 OUT (power) "The output pin supplies power to the load. An output capacitor is required to prevent oscillations. See the Applications Information section for recommended value of output capacitance and information on reverse output (See Datasheet)"

## LT1121IZ-3.3#TRPBF
designator U?
Micropower Low Dropout Regulator with Shutdown, 4.17 to 36 V Vin, 3.3 V Vout, 3-pin TO226 (Z-3), -40 to 125 degC, Pb-Free, Tape and Reel; Manufacturer: Linear Technology; PartNumber: LT1121IZ-3.3#TRPBF; Discrete Pass Element: no; Dropout Voltage(V): 0.42; Iout(mA): 150; Isupply(mA): 0.03; Number of Outputs: 1; Output Voltage: 3.3 V; Shutdown Current(uA): 16; Vin Max(V): 36; Vin Min(V): 4.17; DatasheetVersion: Rev. G; PackageVersion: Rev. C, 06/2010; PackageReference: Z-3; PackageDescription: 3-Pin Plastic TO-92, Body 4.572 x 3.556 mm, Pitch 1.27 mm; Supplier 1: Digi-Key; Supplier Part Number 1: LT1121IZ-3.3#TRPBF-ND; Packing: Tape and Reel; RoHS: TRUE; Mounting Technology: Through Hole; ComponentLink1Description: Manufacturer URL; ComponentLink1URL: http://www.linear.com/; ComponentLink2Description: Datasheet; ComponentLink2URL: http://cds.linear.com/docs/en/datasheet/1121fg.pdf; ComponentLink3Description: Package Specification; ComponentLink3URL: http://cds.linear.com/docs/en/packaging/TO-92_3_05-08-1410.pdf
footprint LT-Z-3-S-TO-226_V (TO-92, 3-Leads, Body 4.572x3.556mm, Pitch 1.27mm)
pins: 1 IN (power) "Power is supplied to the device through the input pin. The input pin should be bypassed to ground if the device is more than six inches away from the main input filter capacitor. In general the output impedance of a battery (See Datasheet)", 2 GND (power), 3 OUT (power) "The output pin supplies power to the load. An output capacitor is required to prevent oscillations. See the Applications Information section for recommended value of output capacitance and information on reverse output (See Datasheet)"

## LT1121IZ-5
designator U?
Micropower Low Dropout Regulator with Shutdown, 4.17 to 36 V Vin, 5 V Vout, 3-pin TO226 (Z-3), -40 to 125 degC; Manufacturer: Linear Technology; PartNumber: LT1121IZ-5; Discrete Pass Element: no; Dropout Voltage(V): 0.42; Iout(mA): 150; Isupply(mA): 0.03; Number of Outputs: 1; Output Voltage: 5 V; PSRR(dB): 58; Shutdown Current(uA): 16; Vin Max(V): 36; Vin Min(V): 4.17; DatasheetVersion: Rev. G; PackageVersion: Rev. C, 06/2010; PackageReference: Z-3; PackageDescription: 3-Pin Plastic TO-92, Body 4.572 x 3.556 mm, Pitch 1.27 mm; Supplier 1: Digi-Key; Supplier Part Number 1: LT1121IZ-5-ND; Supplier 2: Newark; Supplier Part Number 2: 57M1977; RoHS: FALSE; Mounting Technology: Through Hole; ComponentLink1Description: Manufacturer URL; ComponentLink1URL: http://www.linear.com/; ComponentLink2Description: Datasheet; ComponentLink2URL: http://cds.linear.com/docs/en/datasheet/1121fg.pdf; ComponentLink3Description: Package Specification; ComponentLink3URL: http://cds.linear.com/docs/en/packaging/TO-92_3_05-08-1410.pdf
footprint LT-Z-3-S-TO-226_V (TO-92, 3-Leads, Body 4.572x3.556mm, Pitch 1.27mm)
pins: 1 IN (power) "Power is supplied to the device through the input pin. The input pin should be bypassed to ground if the device is more than six inches away from the main input filter capacitor. In general the output impedance of a battery (See Datasheet)", 2 GND (power), 3 OUT (power) "The output pin supplies power to the load. An output capacitor is required to prevent oscillations. See the Applications Information section for recommended value of output capacitance and information on reverse output (See Datasheet)"

## LT1121IZ-5#PBF
designator U?
Micropower Low Dropout Regulator with Shutdown, 4.17 to 36 V Vin, 5 V Vout, 3-pin TO226 (Z-3), -40 to 125 degC, Pb-Free; Manufacturer: Linear Technology; PartNumber: LT1121IZ-5#PBF; Discrete Pass Element: no; Dropout Voltage(V): 0.42; Iout(mA): 150; Isupply(mA): 0.03; Number of Outputs: 1; Output Voltage: 5 V; Shutdown Current(uA): 16; Vin Max(V): 36; Vin Min(V): 4.17; DatasheetVersion: Rev. G; PackageVersion: Rev. C, 06/2010; PackageReference: Z-3; PackageDescription: 3-Pin Plastic TO-92, Body 4.572 x 3.556 mm, Pitch 1.27 mm; Supplier 1: Digi-Key; Supplier Part Number 1: LT1121IZ-5#PBF-ND; Supplier 2: Farnell; Supplier Part Number 2: 2295201; Supplier 3: Newark; Supplier Part Number 3: 57M1978; RoHS: TRUE; Mounting Technology: Through Hole; ComponentLink1Description: Manufacturer URL; ComponentLink1URL: http://www.linear.com/; ComponentLink2Description: Datasheet; ComponentLink2URL: http://cds.linear.com/docs/en/datasheet/1121fg.pdf; ComponentLink3Description: Package Specification; ComponentLink3URL: http://cds.linear.com/docs/en/packaging/TO-92_3_05-08-1410.pdf
footprint LT-Z-3-S-TO-226_V (TO-92, 3-Leads, Body 4.572x3.556mm, Pitch 1.27mm)
pins: 1 IN (power) "Power is supplied to the device through the input pin. The input pin should be bypassed to ground if the device is more than six inches away from the main input filter capacitor. In general the output impedance of a battery (See Datasheet)", 2 GND (power), 3 OUT (power) "The output pin supplies power to the load. An output capacitor is required to prevent oscillations. See the Applications Information section for recommended value of output capacitance and information on reverse output (See Datasheet)"

## LT1121IZ-5#TR
designator U?
Micropower Low Dropout Regulator with Shutdown, 4.17 to 36 V Vin, 5 V Vout, 3-pin TO226 (Z-3), -40 to 125 degC, Tape and Reel; Manufacturer: Linear Technology; PartNumber: LT1121IZ-5#TR; Discrete Pass Element: no; Dropout Voltage(V): 0.42; Iout(mA): 150; Isupply(mA): 0.03; Number of Outputs: 1; Output Voltage: 5 V; Shutdown Current(uA): 16; Vin Max(V): 36; Vin Min(V): 4.17; DatasheetVersion: Rev. G; PackageVersion: Rev. C, 06/2010; PackageReference: Z-3; PackageDescription: 3-Pin Plastic TO-92, Body 4.572 x 3.556 mm, Pitch 1.27 mm; Supplier 1: Digi-Key; Supplier Part Number 1: LT1121IZ-5#TR-ND; Packing: Tape and Reel; RoHS: FALSE; Mounting Technology: Through Hole; ComponentLink1Description: Manufacturer URL; ComponentLink1URL: http://www.linear.com/; ComponentLink2Description: Datasheet; ComponentLink2URL: http://cds.linear.com/docs/en/datasheet/1121fg.pdf; ComponentLink3Description: Package Specification; ComponentLink3URL: http://cds.linear.com/docs/en/packaging/TO-92_3_05-08-1410.pdf
footprint LT-Z-3-S-TO-226_V (TO-92, 3-Leads, Body 4.572x3.556mm, Pitch 1.27mm)
pins: 1 IN (power) "Power is supplied to the device through the input pin. The input pin should be bypassed to ground if the device is more than six inches away from the main input filter capacitor. In general the output impedance of a battery (See Datasheet)", 2 GND (power), 3 OUT (power) "The output pin supplies power to the load. An output capacitor is required to prevent oscillations. See the Applications Information section for recommended value of output capacitance and information on reverse output (See Datasheet)"

## LT1121IZ-5#TRPBF
designator U?
Micropower Low Dropout Regulator with Shutdown, 4.17 to 36 V Vin, 5 V Vout, 3-pin TO226 (Z-3), -40 to 125 degC, Pb-Free, Tape and Reel; Manufacturer: Linear Technology; PartNumber: LT1121IZ-5#TRPBF; Discrete Pass Element: no; Dropout Voltage(V): 0.42; Iout(mA): 150; Isupply(mA): 0.03; Number of Outputs: 1; Output Voltage: 5 V; PSRR(dB): 58; Shutdown Current(uA): 16; Vin Max(V): 36; Vin Min(V): 4.17; DatasheetVersion: Rev. G; PackageVersion: Rev. C, 06/2010; PackageReference: Z-3; PackageDescription: 3-Pin Plastic TO-92, Body 4.572 x 3.556 mm, Pitch 1.27 mm; Supplier 1: Digi-Key; Supplier Part Number 1: LT1121IZ-5#TRPBF-ND; Packing: Tape and Reel; RoHS: TRUE; Mounting Technology: Through Hole; ComponentLink1Description: Manufacturer URL; ComponentLink1URL: http://www.linear.com/; ComponentLink2Description: Datasheet; ComponentLink2URL: http://cds.linear.com/docs/en/datasheet/1121fg.pdf; ComponentLink3Description: Package Specification; ComponentLink3URL: http://cds.linear.com/docs/en/packaging/TO-92_3_05-08-1410.pdf
footprint LT-Z-3-S-TO-226_V (TO-92, 3-Leads, Body 4.572x3.556mm, Pitch 1.27mm)
pins: 1 IN (power) "Power is supplied to the device through the input pin. The input pin should be bypassed to ground if the device is more than six inches away from the main input filter capacitor. In general the output impedance of a battery (See Datasheet)", 2 GND (power), 3 OUT (power) "The output pin supplies power to the load. An output capacitor is required to prevent oscillations. See the Applications Information section for recommended value of output capacitance and information on reverse output (See Datasheet)"

## LT1129CQ
designator U?
Micropower Low Dropout Regulator with Shutdown, 4.15 to 30 V Vin, Adjustable Vout, 5-pin DPAK (Q-5), 0 to 125 degC; Manufacturer: Linear Technology; PartNumber: LT1129CQ; Discrete Pass Element: no; Dropout Voltage(V): 0.45; Iout(mA): 700; Isupply(mA): 0.05; Number of Outputs: 1; Output Voltage: Adj; PSRR(dB): 64; Shutdown Current(uA): 16; Vin Max(V): 30; Vin Min(V): 4.15; Vout Min(V): 3.8; DatasheetVersion: Rev. F; PackageVersion: Rev. F, 09/2011; PackageReference: Q-5; PackageDescription: 5-Pin Plastic DD Pak, Body 10.2235 x 8.89 mm, Pitch 1.702 mm; Supplier 1: Digi-Key; Supplier Part Number 1: LT1129CQ-ND; Supplier 2: Newark; Supplier Part Number 2: 57M2052; RoHS: FALSE; Vout Max(V): 30; Mounting Technology: Surface Mount; ComponentLink1Description: Manufacturer URL; ComponentLink1URL: http://www.linear.com/; ComponentLink2Description: Datasheet; ComponentLink2URL: http://cds.linear.com/docs/en/datasheet/112935ff.pdf; ComponentLink3Description: Package Specification; ComponentLink3URL: http://cds.linear.com/docs/en/packaging/Q%20DD5%2005-08-1461%20Rev%20F.pdf
footprint LT-Q-5_N (DPAK, 5-Leads, Body 10.22x8.89mm, Pitch 1.702mm, IPC Medium Density)
footprint LT-Q-5_L (DPAK, 5-Leads, Body 10.22x8.89mm, Pitch 1.702mm, IPC High Density)
footprint LT-Q-5_M (DPAK, 5-Leads, Body 10.22x8.89mm, Pitch 1.702mm, IPC Low Density)
pins: 1 OUT (power), 2 ADJ (in), 3 GND (power), 4 ~{SHDN} (in), 5 VIN (power), 6 TAB (power)

## LT1129CQ#PBF
designator U?
Micropower Low Dropout Regulator with Shutdown, 4.15 to 30 V Vin, Adjustable Vout, 5-pin DPAK (Q-5), 0 to 125 degC, Pb-Free; Manufacturer: Linear Technology; PartNumber: LT1129CQ#PBF; Discrete Pass Element: no; Dropout Voltage(V): 0.45; Iout(mA): 700; Isupply(mA): 0.05; Number of Outputs: 1; Output Voltage: Adj; PSRR(dB): 64; Shutdown Current(uA): 16; Vin Max(V): 30; Vin Min(V): 4.15; Vout Min(V): 3.8; DatasheetVersion: Rev. F; PackageVersion: Rev. F, 09/2011; PackageReference: Q-5; PackageDescription: 5-Pin Plastic DD Pak, Body 10.2235 x 8.89 mm, Pitch 1.702 mm; Supplier 1: Digi-Key; Supplier Part Number 1: LT1129CQ#PBF-ND; Supplier 2: Farnell; Supplier Part Number 2: 1273573; Supplier 3: Newark; Supplier Part Number 3: 57M2061; RoHS: TRUE; Vout Max(V): 30; Mounting Technology: Surface Mount; ComponentLink1Description: Manufacturer URL; ComponentLink1URL: http://www.linear.com/; ComponentLink2Description: Datasheet; ComponentLink2URL: http://cds.linear.com/docs/en/datasheet/112935ff.pdf; ComponentLink3Description: Package Specification; ComponentLink3URL: http://cds.linear.com/docs/en/packaging/Q%20DD5%2005-08-1461%20Rev%20F.pdf
footprint LT-Q-5_N (DPAK, 5-Leads, Body 10.22x8.89mm, Pitch 1.702mm, IPC Medium Density)
footprint LT-Q-5_L (DPAK, 5-Leads, Body 10.22x8.89mm, Pitch 1.702mm, IPC High Density)
footprint LT-Q-5_M (DPAK, 5-Leads, Body 10.22x8.89mm, Pitch 1.702mm, IPC Low Density)
pins: 1 OUT (power), 2 ADJ (in), 3 GND (power), 4 ~{SHDN} (in), 5 VIN (power), 6 TAB (power)